# Altium schematic symbol library UJ2-MIBH2-4-SMT.SchLib: 1 symbol
Pins are listed as number, name and electrical type; pins without a type are passive.

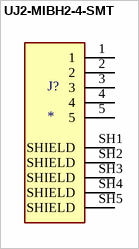
[diagram p0: symbol UJ2-MIBH2-4-SMT]

## UJ2-MIBH2-4-SMT
designator J?
Micro B, USB 2.0, 480 Mbps, 30 Vac, 1.8 A, Right Angle, Surface Mount, USB Receptacle; MF: Same Sky; MP: UJ2-MIBH2-4-SMT; SnapEDA_Link: https://www.snapeda.com/parts/UJ2-MIBH2-4-SMT/Same+Sky/view-part/?ref=snap; Package: None; Value: *; Check_prices: https://www.snapeda.com/parts/UJ2-MIBH2-4-SMT/Same+Sky/view-part/?ref=eda
footprint MOLEX_47346-0001
pins: 1, 2, 3, 4, 5, SH1 SHIELD, SH2 SHIELD, SH3 SHIELD, SH4 SHIELD, SH5 SHIELD